# Altium schematic symbol library Capacitor.SchLib: 5 symbols
Pins are listed as number, name and electrical type; pins without a type are passive.

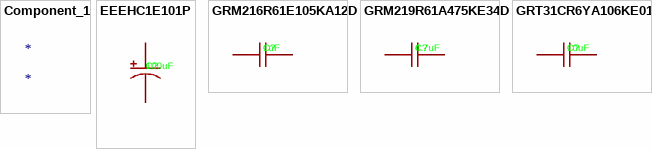
[diagram p0: symbols Component_1 to GRT31CR6YA106KE01L]

## Component_1
designator *

## EEEHC1E101P
designator C?, comment 100uF
100uF 25V 130mA@120Hz ±20% SMD,D8xL10.2mm Aluminum Electrolytic Capacitors - SMD ROHS; Manufacturer: PANASONIC(松下); Symbol: EEEHC1E101P; Add into BOM: yes; Lifetime @ Temp: 5000hrs@105℃; Device: EEEHC1E101P; LCSC Part Name: 100uF ±20% 25V; Supplier Part: C336335; Manufacturer Part: EEEHC1E101P; Supplier Footprint: SMD,D8xL10.2mm; JLCPCB Part Class: Extended Part; Datasheet: https://atta.szlcsc.com/upload/public/pdf/source/20190305/C336336_78C21C8ECF10E68AF1E1A1FAA303815A.pdf; Supplier: LCSC; Convert to PCB: yes; Value: 100uF; Tolerance: ±20%; Ripple Current: 130mA@120Hz; Equivalent Series Resistance(ESR): -; Operating Temperature: -40℃~+105℃
footprint CAP-SMD_BD8.0-L8.3-W8.3-LS9.5-FD
3D model CAP-SMD_BD8.0-L8.3-W8.3-LS9.5-FD
pins: 1, 2

## GRM216R61E105KA12D
designator C?, comment 1uF
25V 1uF X5R ±10% 0805 Multilayer Ceramic Capacitors MLCC - SMD/SMT ROHS; Manufacturer: muRata(村田); Symbol: GRM216R61E105KA12D; Add into BOM: yes; Device: GRM216R61E105KA12D; LCSC Part Name: 1uF ±10% 25V; Supplier Part: C440193; Manufacturer Part: GRM216R61E105KA12D; Supplier Footprint: 0805; JLCPCB Part Class: Extended Part; Datasheet: https://atta.szlcsc.com/upload/public/pdf/source/20191022/C440211_D691AF4420B7318595498C3E4B7F2331.pdf; Supplier: LCSC; Convert to PCB: yes; Value: 1uF; Tolerance: ±10%
footprint C0805
3D model C0805_L2.0-W1.3-H1.3
pins: 1, 2

## GRM219R61A475KE34D
designator C?, comment 4.7uF
10V 4.7uF X5R ±10% 0805 Multilayer Ceramic Capacitors MLCC - SMD/SMT ROHS; Manufacturer: muRata(村田); Symbol: GRM219R61A475KE34D; Add into BOM: yes; Device: GRM219R61A475KE34D; LCSC Part Name: 4.7uF ±10% 10V; Supplier Part: C237307; Manufacturer Part: GRM219R61A475KE34D; Supplier Footprint: 0805; JLCPCB Part Class: Extended Part; Datasheet: https://atta.szlcsc.com/upload/public/pdf/source/20191220/C237307_8DE5545EAC16C515184C701B10B39486.pdf; Supplier: LCSC; Convert to PCB: yes; Value: 4.7uF; Tolerance: ±10%
footprint C0805
3D model C0805_L2.0-W1.3-H1.3
pins: 1, 2

## GRT31CR6YA106KE01L
designator C?, comment 10uF
35V 10uF X5R ±10% 1206 Multilayer Ceramic Capacitors MLCC - SMD/SMT ROHS; Manufacturer: Murata Electronics; Symbol: GRT31CR6YA106KE01L; Add into BOM: yes; Device: GRT31CR6YA106KE01L; LCSC Part Name: 10uF ±10% 35V; Supplier Part: C2175512; Manufacturer Part: GRT31CR6YA106KE01L; Supplier Footprint: 1206; JLCPCB Part Class: Extended Part; Supplier: LCSC; Convert to PCB: yes; Value: 10uF; Tolerance: ±10%
footprint C1206
3D model C1206_L3.2-W1.6-H1.3
pins: 1, 2